# Altium footprint library WE-FLYTI.PcbLib: 25 footprints (part 1 of 2)
Each footprint in its own frame and in the unit in brackets; x right, y up, seen from the top. Pads: shape width x height; smd on the part's side, far side on the other; paste and mask are expansions set on the pad; w line width, h text height; cw(c..) or ccw(c..) is an arc to the next point about the centre after c.
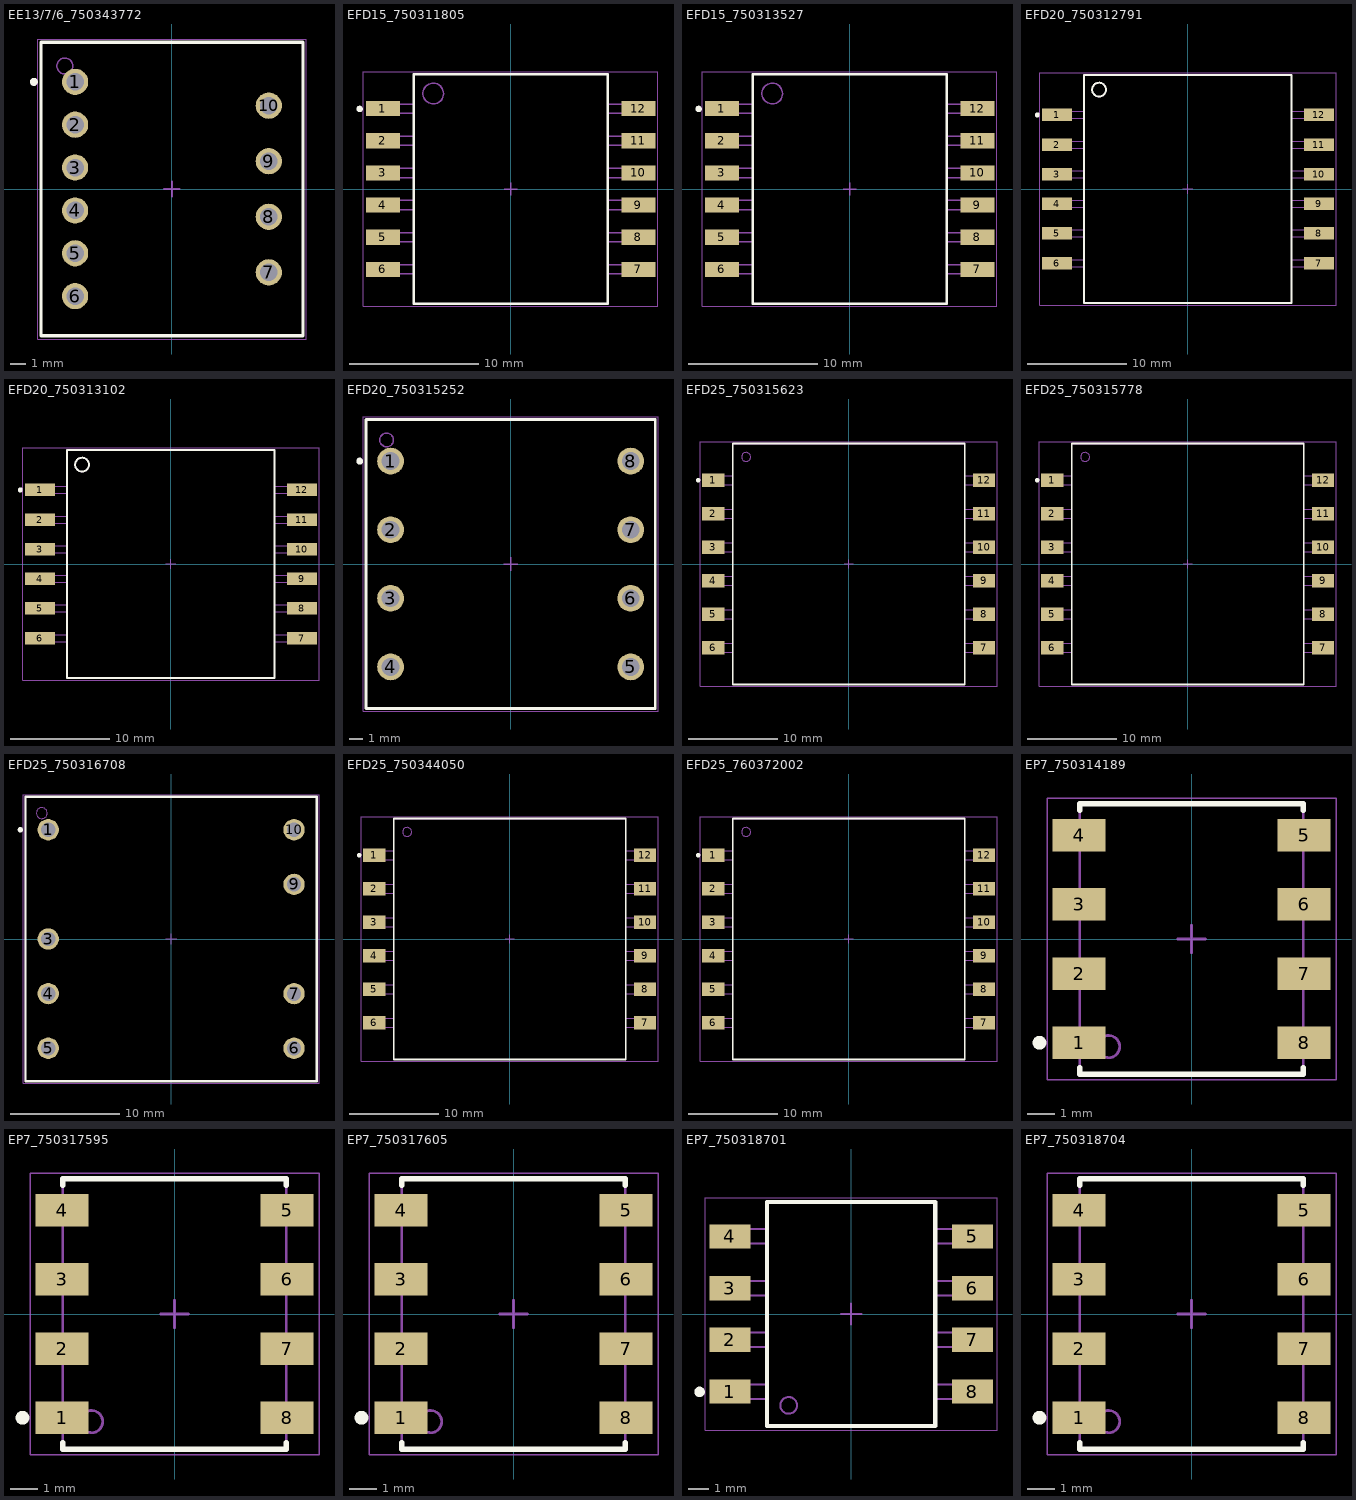
[diagram p0: the footprints below, top view; thin cyan lines are the x and y axes]

## EE13/7/6_750343772 [mm] "Flyback Transformer, EE13/7/6, THT"
height 18.8
pads (10):
  round 1.65 hole 1.1: 1(-6.1,6.75) 2(-6.1,4.05) 3(-6.1,1.35) 4(-6.1,-1.35) 5(-6.1,-4.05) 6(-6.1,-6.75) 7(6.1,-5.25) 8(6.1,-1.75) 9(6.1,1.75) 10(6.1,5.25)
Top Overlay:
  circle w0.25: c-8.7,6.75 r0.125
  lines w0.2: -8.25,-9.25 -8.25,9.25 8.25,9.25 8.25,-9.25 -8.25,-9.25
Top Assembly:
  circle w0.1: c-6.75,7.75 r0.5
  lines w0.1: -8.25,-9.25 8.25,-9.25 8.25,9.25 -8.25,9.25 -8.25,-9.25
Top Designator:
  text ".Designator" at -3.647,-0.357 h1
Top Courtyard:
  lines w0.05: -8.45,-9.45 -8.45,9.45 8.45,9.45 8.45,-9.45 -8.45,-9.45
Top Component Center:
  lines w0.1: -0.5,0 0.5,0 ; 0,-0.5 0,0.5
3D body "070-5278 (rev1).STEP": height 17.78, standoff -3.95, extent -7.74,-8.81 7.74,8.81

## EFD15_750311805 [mm] "Flyback Transformer, EFD15, SMT"
height 8.89
pads (12):
  rect 2.62x1.17 smd: 1(-9.895,6.225) 2(-9.895,3.735) 3(-9.895,1.245) 4(-9.895,-1.245) 5(-9.895,-3.735) 6(-9.895,-6.225) 7(9.895,-6.225) 8(9.895,-3.735) 9(9.895,-1.245) 10(9.895,1.245) 11(9.895,3.735) 12(9.895,6.225)
Top Overlay:
  circle w0.25: c-11.7,6.2 r0.125
  lines w0.2: -7.5,-8.89 -7.5,8.89 7.5,8.89 7.5,-8.89 -7.5,-8.89
Top Assembly:
  circle w0.1: c-6,7.39 r0.8
  lines w0.1: -7.5,-6.58 -10.62,-6.58 -10.62,-5.87 -7.5,-5.87 ; -7.5,-4.09 -10.62,-4.09 -10.62,-3.38 -7.5,-3.38 ; -7.5,-1.6 -10.62,-1.6 -10.62,-0.89 -7.5,-0.89 ; -7.5,0.89 -10.62,0.89 -10.62,1.6 -7.5,1.6 ; -7.5,3.38 -10.62,3.38 -10.62,4.09 -7.5,4.09 ; -7.5,5.87 -10.62,5.87 -10.62,6.58 -7.5,6.58 ; 7.5,-6.58 10.62,-6.58 10.62,-5.87 7.5,-5.87 ; 7.5,-4.09 10.62,-4.09 10.62,-3.38 7.5,-3.38 ; 7.5,-1.6 10.62,-1.6 10.62,-0.89 7.5,-0.89 ; 7.5,0.89 10.62,0.89 10.62,1.6 7.5,1.6 ; 7.5,3.38 10.62,3.38 10.62,4.09 7.5,4.09 ; 7.5,5.87 10.62,5.87 10.62,6.58 7.5,6.58 ; -7.5,-8.89 7.5,-8.89 7.5,8.89 -7.5,8.89 -7.5,-8.89
Top Designator:
  text ".Designator" at -3.647,-0.357 h1
Top Courtyard:
  lines w0.05: -11.405,-9.09 -11.405,9.09 11.405,9.09 11.405,-9.09 -11.405,-9.09
Top Component Center:
  lines w0.1: -0.5,0 0.5,0 ; 0,-0.5 0,0.5
3D body "Download_STP_070-4265_0173 (rev1).STEP": height 8.35, standoff 0.05, extent -10.62,-8.495 10.62,8.495

## EFD15_750313527 [mm] "Flyback Transformer, EFD15, SMT"
height 8.89
pads (12):
  rect 2.62x1.17 smd: 1(-9.895,6.225) 2(-9.895,3.735) 3(-9.895,1.245) 4(-9.895,-1.245) 5(-9.895,-3.735) 6(-9.895,-6.225) 7(9.895,-6.225) 8(9.895,-3.735) 9(9.895,-1.245) 10(9.895,1.245) 11(9.895,3.735) 12(9.895,6.225)
Top Overlay:
  circle w0.25: c-11.7,6.2 r0.125
  lines w0.2: -7.5,-8.89 7.5,-8.89 7.5,8.89 -7.5,8.89 -7.5,-8.89
Top Assembly:
  circle w0.1: c-6,7.39 r0.8
  lines w0.1: -7.5,-6.58 -10.62,-6.58 -10.62,-5.87 -7.5,-5.87 ; -7.5,-4.09 -10.62,-4.09 -10.62,-3.38 -7.5,-3.38 ; -7.5,-1.6 -10.62,-1.6 -10.62,-0.89 -7.5,-0.89 ; -7.5,0.89 -10.62,0.89 -10.62,1.6 -7.5,1.6 ; -7.5,3.38 -10.62,3.38 -10.62,4.09 -7.5,4.09 ; -7.5,5.87 -10.62,5.87 -10.62,6.58 -7.5,6.58 ; 7.5,-6.58 10.62,-6.58 10.62,-5.87 7.5,-5.87 ; 7.5,-4.09 10.62,-4.09 10.62,-3.38 7.5,-3.38 ; 7.5,-1.6 10.62,-1.6 10.62,-0.89 7.5,-0.89 ; 7.5,0.89 10.62,0.89 10.62,1.6 7.5,1.6 ; 7.5,3.38 10.62,3.38 10.62,4.09 7.5,4.09 ; 7.5,5.87 10.62,5.87 10.62,6.58 7.5,6.58 ; -7.5,-8.89 -7.5,8.89 7.5,8.89 7.5,-8.89 -7.5,-8.89
Top Designator:
  text ".Designator" at -3.647,-0.357 h1
Top Courtyard:
  lines w0.05: -11.405,-9.09 11.405,-9.09 11.405,9.09 -11.405,9.09 -11.405,-9.09
Top Component Center:
  lines w0.1: -0.5,0 0.5,0 ; 0,-0.5 0,0.5
3D body "Download_STP_070-4265_0173 (rev1).STEP": height 8.35, standoff 0.05, extent -10.62,-8.495 10.62,8.495

## EFD20_750312791 [mm] "Flyback Transformer, EFD20, SMT"
height 11.43
pads (12):
  rect 3.05x1.27 smd: 1(-13.26,7.5) 2(-13.26,4.5) 3(-13.26,1.5) 4(-13.26,-1.5) 5(-13.26,-4.5) 6(-13.26,-7.5) 7(13.26,-7.5) 8(13.26,-4.5) 9(13.26,-1.5) 10(13.26,1.5) 11(13.26,4.5) 12(13.26,7.5)
Top Overlay:
  circle w0.2: c-9,10.055 r0.7
  circle w0.25: c-15.25,7.5 r0.125
  lines w0.2: -10.5,-11.555 -10.5,11.555 10.5,11.555 10.5,-11.555 -10.5,-11.555
Top Assembly:
  circle w0.1: c-9,10.055 r0.7
  lines w0.1: -10.5,-7.855 -14.325,-7.855 -14.325,-7.145 -10.5,-7.145 ; -10.5,-4.855 -14.325,-4.855 -14.325,-4.145 -10.5,-4.145 ; -10.5,-1.855 -14.325,-1.855 -14.325,-1.145 -10.5,-1.145 ; -10.5,1.145 -14.325,1.145 -14.325,1.855 -10.5,1.855 ; -10.5,4.145 -14.325,4.145 -14.325,4.855 -10.5,4.855 ; -10.5,7.145 -14.325,7.145 -14.325,7.855 -10.5,7.855 ; 10.5,-7.855 14.325,-7.855 14.325,-7.145 10.5,-7.145 ; 10.5,-4.855 14.325,-4.855 14.325,-4.145 10.5,-4.145 ; 10.5,-1.855 14.325,-1.855 14.325,-1.145 10.5,-1.145 ; 10.5,1.145 14.325,1.145 14.325,1.855 10.5,1.855 ; 10.5,4.145 14.325,4.145 14.325,4.855 10.5,4.855 ; 10.5,7.145 14.325,7.145 14.325,7.855 10.5,7.855 ; -10.5,-11.555 -10.5,11.555 10.5,11.555 10.5,-11.555 -10.5,-11.555
Top Designator:
  text ".Designator" at -3.647,-0.357 h1
Top Courtyard:
  lines w0.05: -14.985,-11.755 -14.985,11.755 14.985,11.755 14.985,-11.755 -14.985,-11.755
Top Component Center:
  lines w0.1: -0.5,0 0.5,0 ; 0,-0.5 0,0.5
3D body "Download_STP_070-5899 (rev1) (3).STEP": height 10.67, standoff 0, extent -14.325,-10 14.325,10

## EFD20_750313102 [mm] "Flyback Transformer, EFD20, SMT"
height 11.43
pads (12):
  rect 3.05x1.27 smd: 1(-13.26,7.5) 2(-13.26,4.5) 3(-13.26,1.5) 4(-13.26,-1.5) 5(-13.26,-4.5) 6(-13.26,-7.5) 7(13.26,-7.5) 8(13.26,-4.5) 9(13.26,-1.5) 10(13.26,1.5) 11(13.26,4.5) 12(13.26,7.5)
Top Overlay:
  circle w0.25: c-15.25,7.5 r0.125
  circle w0.2: c-9,10.055 r0.7
  lines w0.2: -10.5,-11.555 10.5,-11.555 10.5,11.555 -10.5,11.555 -10.5,-11.555
Top Assembly:
  circle w0.1: c-9,10.055 r0.7
  lines w0.1: -10.5,-7.855 -14.325,-7.855 -14.325,-7.145 -10.5,-7.145 ; -10.5,-4.855 -14.325,-4.855 -14.325,-4.145 -10.5,-4.145 ; -10.5,-1.855 -14.325,-1.855 -14.325,-1.145 -10.5,-1.145 ; -10.5,1.145 -14.325,1.145 -14.325,1.855 -10.5,1.855 ; -10.5,4.145 -14.325,4.145 -14.325,4.855 -10.5,4.855 ; -10.5,7.145 -14.325,7.145 -14.325,7.855 -10.5,7.855 ; 10.5,-7.855 14.325,-7.855 14.325,-7.145 10.5,-7.145 ; 10.5,-4.855 14.325,-4.855 14.325,-4.145 10.5,-4.145 ; 10.5,-1.855 14.325,-1.855 14.325,-1.145 10.5,-1.145 ; 10.5,1.145 14.325,1.145 14.325,1.855 10.5,1.855 ; 10.5,4.145 14.325,4.145 14.325,4.855 10.5,4.855 ; 10.5,7.145 14.325,7.145 14.325,7.855 10.5,7.855 ; -10.5,-11.555 10.5,-11.555 10.5,11.555 -10.5,11.555 -10.5,-11.555
Top Designator:
  text ".Designator" at -3.647,-0.357 h1
Top Courtyard:
  lines w0.05: -14.985,-11.755 14.985,-11.755 14.985,11.755 -14.985,11.755 -14.985,-11.755
Top Component Center:
  lines w0.1: -0.5,0 0.5,0 ; 0,-0.5 0,0.5
3D body "Download_STP_070-4275-0169 (rev1) (3).STEP": height 10.93, standoff 0, extent -14.28,-10.05 14.28,10.05

## EFD20_750315252 [mm] "Flyback Transformer, EFD20, THT"
height 11.05
pads (8):
  round 1.95 hole 1.3: 1(-8.75,7.5) 2(-8.75,2.5) 3(-8.75,-2.5) 4(-8.75,-7.5) 5(8.75,-7.5) 6(8.75,-2.5) 7(8.75,2.5) 8(8.75,7.5)
Top Overlay:
  circle w0.25: c-11,7.5 r0.125
  lines w0.2: -10.54,-10.54 10.54,-10.54 10.54,10.54 -10.54,10.54 -10.54,-10.54
Top Assembly:
  circle w0.1: c-9.04,9.04 r0.5
  lines w0.1: -10.54,-10.54 10.54,-10.54 10.54,10.54 -10.54,10.54 -10.54,-10.54
Top Designator:
  text ".Designator" at -3.647,-0.357 h1
Top Courtyard:
  lines w0.05: -10.74,-10.74 10.74,-10.74 10.74,10.74 -10.74,10.74 -10.74,-10.74
Top Component Center:
  lines w0.1: -0.5,0 0.5,0 ; 0,-0.5 0,0.5
3D body "Download_STP_070-2609 (rev1) (1).STEP": height 10.55, standoff -3.26, extent -10.1,-10.1 10.1,10.1

## EFD25_750315623 [mm] "Flyback Transformer, EFD25, SMT"
height 13.97
pads (12):
  rect 2.5x1.52 smd: 1(-15.19,9.4) 2(-15.19,5.64) 3(-15.19,1.88) 4(-15.19,-1.88) 5(-15.19,-5.64) 6(-15.19,-9.4) 7(15.19,-9.4) 8(15.19,-5.64) 9(15.19,-1.88) 10(15.19,1.88) 11(15.19,5.64) 12(15.19,9.4)
Top Overlay:
  circle w0.25: c-16.9,9.4 r0.125
  lines w0.2: -13.01,-13.515 -13.01,13.515 13.01,13.515 13.01,-13.515 -13.01,-13.515
Top Assembly:
  circle w0.1: c-11.51,12.015 r0.5
  lines w0.1: -13.01,-9.9 -16.155,-9.9 -16.155,-8.9 -13.01,-8.9 ; -13.01,-6.14 -16.155,-6.14 -16.155,-5.14 -13.01,-5.14 ; -13.01,-2.38 -16.155,-2.38 -16.155,-1.38 -13.01,-1.38 ; -13.01,1.38 -16.155,1.38 -16.155,2.38 -13.01,2.38 ; -13.01,5.14 -16.155,5.14 -16.155,6.14 -13.01,6.14 ; -13.01,8.9 -16.155,8.9 -16.155,9.9 -13.01,9.9 ; 13.01,-9.9 16.155,-9.9 16.155,-8.9 13.01,-8.9 ; 13.01,-6.14 16.155,-6.14 16.155,-5.14 13.01,-5.14 ; 13.01,-2.38 16.155,-2.38 16.155,-1.38 13.01,-1.38 ; 13.01,1.38 16.155,1.38 16.155,2.38 13.01,2.38 ; 13.01,5.14 16.155,5.14 16.155,6.14 13.01,6.14 ; 13.01,8.9 16.155,8.9 16.155,9.9 13.01,9.9 ; -13.01,-13.515 -13.01,13.515 13.01,13.515 13.01,-13.515 -13.01,-13.515
Top Designator:
  text ".Designator" at -3.647,-0.357 h1
Top Courtyard:
  lines w0.05: -16.64,-13.715 -16.64,13.715 16.64,13.715 16.64,-13.715 -16.64,-13.715
Top Component Center:
  lines w0.1: -0.5,0 0.5,0 ; 0,-0.5 0,0.5
3D body "Download_STP_070-4476_0178_clip (rev1).STEP": height 13.28, standoff 0, extent -16.155,-13 16.155,13

## EFD25_750315778 [mm] "Flyback Transformer, EFD25, SMT"
height 13.97
pads (12):
  rect 2.5x1.52 smd: 1(-15.19,9.4) 2(-15.19,5.64) 3(-15.19,1.88) 4(-15.19,-1.88) 5(-15.19,-5.64) 6(-15.19,-9.4) 7(15.19,-9.4) 8(15.19,-5.64) 9(15.19,-1.88) 10(15.19,1.88) 11(15.19,5.64) 12(15.19,9.4)
Top Overlay:
  circle w0.25: c-16.9,9.4 r0.125
  lines w0.2: -13.01,-13.515 13.01,-13.515 13.01,13.515 -13.01,13.515 -13.01,-13.515
Top Assembly:
  circle w0.1: c-11.51,12.015 r0.5
  lines w0.1: -13.01,-9.9 -16.155,-9.9 -16.155,-8.9 -13.01,-8.9 ; -13.01,-6.14 -16.155,-6.14 -16.155,-5.14 -13.01,-5.14 ; -13.01,-2.38 -16.155,-2.38 -16.155,-1.38 -13.01,-1.38 ; -13.01,1.38 -16.155,1.38 -16.155,2.38 -13.01,2.38 ; -13.01,5.14 -16.155,5.14 -16.155,6.14 -13.01,6.14 ; -13.01,8.9 -16.155,8.9 -16.155,9.9 -13.01,9.9 ; 13.01,-9.9 16.155,-9.9 16.155,-8.9 13.01,-8.9 ; 13.01,-6.14 16.155,-6.14 16.155,-5.14 13.01,-5.14 ; 13.01,-2.38 16.155,-2.38 16.155,-1.38 13.01,-1.38 ; 13.01,1.38 16.155,1.38 16.155,2.38 13.01,2.38 ; 13.01,5.14 16.155,5.14 16.155,6.14 13.01,6.14 ; 13.01,8.9 16.155,8.9 16.155,9.9 13.01,9.9 ; -13.01,-13.515 13.01,-13.515 13.01,13.515 -13.01,13.515 -13.01,-13.515
Top Designator:
  text ".Designator" at -3.647,-0.357 h1
Top Courtyard:
  lines w0.05: -16.64,-13.715 16.64,-13.715 16.64,13.715 -16.64,13.715 -16.64,-13.715
Top Component Center:
  lines w0.1: -0.5,0 0.5,0 ; 0,-0.5 0,0.5
3D body "Download_STP_070-4476_0178_clip (rev1).STEP": height 13.28, standoff 0, extent -16.155,-13 16.155,13

## EFD25_750316708 [mm] "Flyback Transformer, EFD25, THT"
height 14.5
pads (8):
  round 1.95 hole 1.32: 1(-11.25,10) 3(-11.25,0) 4(-11.25,-5) 5(-11.25,-10) 6(11.25,-10) 7(11.25,-5) 9(11.25,5) 10(11.25,10)
Top Overlay:
  circle w0.25: c-13.8,10 r0.125
  lines w0.2: -13.335,-13.02 -13.335,13.02 13.335,13.02 13.335,-13.02 -13.335,-13.02
Top Assembly:
  circle w0.1: c-11.835,11.52 r0.5
  lines w0.1: -13.335,-13.02 -13.335,13.02 13.335,13.02 13.335,-13.02 -13.335,-13.02
Top Designator:
  text ".Designator" at -3.647,-0.357 h1
Top Courtyard:
  lines w0.05: -13.535,-13.22 -13.535,13.22 13.535,13.22 13.535,-13.22 -13.535,-13.22
Top Component Center:
  lines w0.1: -0.5,0 0.5,0 ; 0,-0.5 0,0.5
3D body "Download_STP_070-2710_MP2-8 (rev1).STEP": height 12.98, standoff -3.24, extent -12.91,-12.985 12.91,12.985

## EFD25_750344050 [mm] "Flyback Transformer, EFD25, SMT"
height 13.69
pads (12):
  rect 2.5x1.52 smd: 1(-15.19,9.4) 2(-15.19,5.64) 3(-15.19,1.88) 4(-15.19,-1.88) 5(-15.19,-5.64) 6(-15.19,-9.4) 7(15.19,-9.4) 8(15.19,-5.64) 9(15.19,-1.88) 10(15.19,1.88) 11(15.19,5.64) 12(15.19,9.4)
Top Overlay:
  circle w0.25: c-16.9,9.4 r0.125
  lines w0.2: -13.01,-13.515 -13.01,13.515 13.01,13.515 13.01,-13.515 -13.01,-13.515
Top Assembly:
  circle w0.1: c-11.51,12.015 r0.5
  lines w0.1: -13.01,-9.9 -16.155,-9.9 -16.155,-8.9 -13.01,-8.9 ; -13.01,-6.14 -16.155,-6.14 -16.155,-5.14 -13.01,-5.14 ; -13.01,-2.38 -16.155,-2.38 -16.155,-1.38 -13.01,-1.38 ; -13.01,1.38 -16.155,1.38 -16.155,2.38 -13.01,2.38 ; -13.01,5.14 -16.155,5.14 -16.155,6.14 -13.01,6.14 ; -13.01,8.9 -16.155,8.9 -16.155,9.9 -13.01,9.9 ; 13.01,-9.9 16.155,-9.9 16.155,-8.9 13.01,-8.9 ; 13.01,-6.14 16.155,-6.14 16.155,-5.14 13.01,-5.14 ; 13.01,-2.38 16.155,-2.38 16.155,-1.38 13.01,-1.38 ; 13.01,1.38 16.155,1.38 16.155,2.38 13.01,2.38 ; 13.01,5.14 16.155,5.14 16.155,6.14 13.01,6.14 ; 13.01,8.9 16.155,8.9 16.155,9.9 13.01,9.9 ; -13.01,-13.515 -13.01,13.515 13.01,13.515 13.01,-13.515 -13.01,-13.515
Top Designator:
  text ".Designator" at -3.647,-0.357 h1
Top Courtyard:
  lines w0.05: -16.64,-13.715 -16.64,13.715 16.64,13.715 16.64,-13.715 -16.64,-13.715
Top Component Center:
  lines w0.1: -0.5,0 0.5,0 ; 0,-0.5 0,0.5
3D body "070-4476 (rev1) (1).STEP": height 13.28, standoff 0, extent -16.155,-13 16.155,13

## EFD25_760372002 [mm] "Flyback Transformer, EFD25, SMT"
height 13.97
pads (12):
  rect 2.5x1.52 smd: 1(-15.19,9.4) 2(-15.19,5.64) 3(-15.19,1.88) 4(-15.19,-1.88) 5(-15.19,-5.64) 6(-15.19,-9.4) 7(15.19,-9.4) 8(15.19,-5.64) 9(15.19,-1.88) 10(15.19,1.88) 11(15.19,5.64) 12(15.19,9.4)
Top Overlay:
  circle w0.25: c-16.9,9.4 r0.125
  lines w0.2: -13.01,-13.515 -13.01,13.515 13.01,13.515 13.01,-13.515 -13.01,-13.515
Top Assembly:
  circle w0.1: c-11.51,12.015 r0.5
  lines w0.1: -13.01,-9.9 -16.155,-9.9 -16.155,-8.9 -13.01,-8.9 ; -13.01,-6.14 -16.155,-6.14 -16.155,-5.14 -13.01,-5.14 ; -13.01,-2.38 -16.155,-2.38 -16.155,-1.38 -13.01,-1.38 ; -13.01,1.38 -16.155,1.38 -16.155,2.38 -13.01,2.38 ; -13.01,5.14 -16.155,5.14 -16.155,6.14 -13.01,6.14 ; -13.01,8.9 -16.155,8.9 -16.155,9.9 -13.01,9.9 ; 13.01,-9.9 16.155,-9.9 16.155,-8.9 13.01,-8.9 ; 13.01,-6.14 16.155,-6.14 16.155,-5.14 13.01,-5.14 ; 13.01,-2.38 16.155,-2.38 16.155,-1.38 13.01,-1.38 ; 13.01,1.38 16.155,1.38 16.155,2.38 13.01,2.38 ; 13.01,5.14 16.155,5.14 16.155,6.14 13.01,6.14 ; 13.01,8.9 16.155,8.9 16.155,9.9 13.01,9.9 ; -13.01,-13.515 -13.01,13.515 13.01,13.515 13.01,-13.515 -13.01,-13.515
Top Designator:
  text ".Designator" at -3.647,-0.357 h1
Top Courtyard:
  lines w0.05: -16.64,-13.715 -16.64,13.715 16.64,13.715 16.64,-13.715 -16.64,-13.715
Top Component Center:
  lines w0.1: -0.5,0 0.5,0 ; 0,-0.5 0,0.5
3D body "070-4476 (rev1) (1).STEP": height 13.28, standoff 0, extent -16.155,-13 16.155,13

## EP7_750314189 [mm] "Flyback Transformer, EP7, SMT"
height 10.54
pads (8):
  rect 1.91x1.17 smd: 1(-4.065,-3.75) 2(-4.065,-1.25) 3(-4.065,1.25) 4(-4.065,3.75) 5(4.065,3.75) 6(4.065,1.25) 7(4.065,-1.25) 8(4.065,-3.75)
Top Overlay:
  circle w0.25: c-5.5,-3.75 r0.125
  lines w0.2: -4.04,-4.65 -4.04,-4.89 4.04,-4.89 4.04,-4.65 ; -4.04,4.65 -4.04,4.89 4.04,4.89 4.04,4.65
Top Assembly:
  circle w0.1: c-3,-3.89 r0.4
  lines w0.1: -4.04,-4.105 -4.4,-4.105 -4.4,-3.395 -4.04,-3.395 ; -4.04,-1.605 -4.4,-1.605 -4.4,-0.895 -4.04,-0.895 ; -4.04,0.895 -4.4,0.895 -4.4,1.605 -4.04,1.605 ; -4.04,3.395 -4.4,3.395 -4.4,4.105 -4.04,4.105 ; 4.04,-4.105 4.4,-4.105 4.4,-3.395 4.04,-3.395 ; 4.04,-1.605 4.4,-1.605 4.4,-0.895 4.04,-0.895 ; 4.04,0.895 4.4,0.895 4.4,1.605 4.04,1.605 ; 4.04,3.395 4.4,3.395 4.4,4.105 4.04,4.105 ; -4.04,-4.89 -4.04,4.89 4.04,4.89 4.04,-4.89 -4.04,-4.89
Top Designator:
  text ".Designator" at -3.647,-0.357 h1
Top Courtyard:
  lines w0.05: -5.22,-5.09 -5.22,5.09 5.22,5.09 5.22,-5.09 -5.22,-5.09
Top Component Center:
  lines w0.1: -0.5,0 0.5,0 ; 0,-0.5 0,0.5
3D body "070-4436 (rev1) (8).STEP": height 10.09, standoff 0, extent -4.4,-4.89 4.4,4.89

## EP7_750317595 [mm] "Flyback Transformer, EP7, SMT"
height 10.54
pads (8):
  rect 1.91x1.17 smd: 1(-4.065,-3.75) 2(-4.065,-1.25) 3(-4.065,1.25) 4(-4.065,3.75) 5(4.065,3.75) 6(4.065,1.25) 7(4.065,-1.25) 8(4.065,-3.75)
Top Overlay:
  circle w0.25: c-5.5,-3.75 r0.125
  lines w0.2: -4.04,-4.65 -4.04,-4.89 4.04,-4.89 4.04,-4.65 ; -4.04,4.65 -4.04,4.89 4.04,4.89 4.04,4.65
Top Assembly:
  circle w0.1: c-3,-3.89 r0.4
  lines w0.1: -4.04,-4.105 -4.4,-4.105 -4.4,-3.395 -4.04,-3.395 ; -4.04,-1.605 -4.4,-1.605 -4.4,-0.895 -4.04,-0.895 ; -4.04,0.895 -4.4,0.895 -4.4,1.605 -4.04,1.605 ; -4.04,3.395 -4.4,3.395 -4.4,4.105 -4.04,4.105 ; 4.04,-4.105 4.4,-4.105 4.4,-3.395 4.04,-3.395 ; 4.04,-1.605 4.4,-1.605 4.4,-0.895 4.04,-0.895 ; 4.04,0.895 4.4,0.895 4.4,1.605 4.04,1.605 ; 4.04,3.395 4.4,3.395 4.4,4.105 4.04,4.105 ; -4.04,-4.89 -4.04,4.89 4.04,4.89 4.04,-4.89 -4.04,-4.89
Top Designator:
  text ".Designator" at -3.647,-0.357 h1
Top Courtyard:
  lines w0.05: -5.22,-5.09 -5.22,5.09 5.22,5.09 5.22,-5.09 -5.22,-5.09
Top Component Center:
  lines w0.1: -0.5,0 0.5,0 ; 0,-0.5 0,0.5
3D body "070-4436 (rev1) (8).STEP": height 10.09, standoff 0, extent -4.4,-4.89 4.4,4.89

## EP7_750317605 [mm] "Flyback Transformer, EP7, SMT"
height 10.54
pads (8):
  rect 1.91x1.17 smd: 1(-4.065,-3.75) 2(-4.065,-1.25) 3(-4.065,1.25) 4(-4.065,3.75) 5(4.065,3.75) 6(4.065,1.25) 7(4.065,-1.25) 8(4.065,-3.75)
Top Overlay:
  circle w0.25: c-5.5,-3.75 r0.125
  lines w0.2: -4.04,-4.65 -4.04,-4.89 4.04,-4.89 4.04,-4.65 ; -4.04,4.65 -4.04,4.89 4.04,4.89 4.04,4.65
Top Assembly:
  circle w0.1: c-3,-3.89 r0.4
  lines w0.1: -4.04,-4.105 -4.4,-4.105 -4.4,-3.395 -4.04,-3.395 ; -4.04,-1.605 -4.4,-1.605 -4.4,-0.895 -4.04,-0.895 ; -4.04,0.895 -4.4,0.895 -4.4,1.605 -4.04,1.605 ; -4.04,3.395 -4.4,3.395 -4.4,4.105 -4.04,4.105 ; 4.04,-4.105 4.4,-4.105 4.4,-3.395 4.04,-3.395 ; 4.04,-1.605 4.4,-1.605 4.4,-0.895 4.04,-0.895 ; 4.04,0.895 4.4,0.895 4.4,1.605 4.04,1.605 ; 4.04,3.395 4.4,3.395 4.4,4.105 4.04,4.105 ; -4.04,-4.89 4.04,-4.89 4.04,4.89 -4.04,4.89 -4.04,-4.89
Top Designator:
  text ".Designator" at -3.647,-0.357 h1
Top Courtyard:
  lines w0.05: -5.22,-5.09 5.22,-5.09 5.22,5.09 -5.22,5.09 -5.22,-5.09
Top Component Center:
  lines w0.1: -0.5,0 0.5,0 ; 0,-0.5 0,0.5
3D body "070-4436 (rev1) (8).STEP": height 10.09, standoff 0, extent -4.4,-4.89 4.4,4.89

## EP7_750318701 [mm] "Flyback Transformer, EP7, SMT"
height 9.14
pads (8):
  rect 1.96x1.17 smd: 1(-5.84,-3.735) 2(-5.84,-1.245) 3(-5.84,1.245) 4(-5.84,3.735) 5(5.84,3.735) 6(5.84,1.245) 7(5.84,-1.245) 8(5.84,-3.735)
Top Overlay:
  circle w0.25: c-7.3,-3.75 r0.125
  lines w0.2: -4.05,-5.4 -4.05,5.4 4.05,5.4 4.05,-5.4 -4.05,-5.4
Top Assembly:
  circle w0.1: c-3.01,-4.4 r0.4
  lines w0.1: -4.05,-4.085 -6.35,-4.085 -6.35,-3.385 -4.05,-3.385 ; -4.05,-1.595 -6.35,-1.595 -6.35,-0.895 -4.05,-0.895 ; -4.05,0.895 -6.35,0.895 -6.35,1.595 -4.05,1.595 ; -4.05,3.385 -6.35,3.385 -6.35,4.085 -4.05,4.085 ; 4.05,-4.085 6.35,-4.085 6.35,-3.385 4.05,-3.385 ; 4.05,-1.595 6.35,-1.595 6.35,-0.895 4.05,-0.895 ; 4.05,0.895 6.35,0.895 6.35,1.595 4.05,1.595 ; 4.05,3.385 6.35,3.385 6.35,4.085 4.05,4.085 ; -4.05,-5.4 -4.05,5.4 4.05,5.4 4.05,-5.4 -4.05,-5.4
Top Designator:
  text ".Designator" at -3.647,-0.357 h1
Top Courtyard:
  lines w0.05: -7.02,-5.6 -7.02,5.6 7.02,5.6 7.02,-5.6 -7.02,-5.6
Top Component Center:
  lines w0.1: -0.5,0 0.5,0 ; 0,-0.5 0,0.5
3D body "Download_STP_070-4390 (rev1).STEP": height 8.6, standoff 0, extent -6.35,-5.23 6.35,5.23

## EP7_750318704 [mm] "Flyback Transformer, EP7, SMT"
height 10.54
pads (8):
  rect 1.91x1.17 smd: 1(-4.065,-3.75) 2(-4.065,-1.25) 3(-4.065,1.25) 4(-4.065,3.75) 5(4.065,3.75) 6(4.065,1.25) 7(4.065,-1.25) 8(4.065,-3.75)
Top Overlay:
  circle w0.25: c-5.5,-3.75 r0.125
  lines w0.2: -4.04,-4.65 -4.04,-4.89 4.04,-4.89 4.04,-4.65 ; -4.04,4.65 -4.04,4.89 4.04,4.89 4.04,4.65
Top Assembly:
  circle w0.1: c-3,-3.89 r0.4
  lines w0.1: -4.04,-4.105 -4.4,-4.105 -4.4,-3.395 -4.04,-3.395 ; -4.04,-1.605 -4.4,-1.605 -4.4,-0.895 -4.04,-0.895 ; -4.04,0.895 -4.4,0.895 -4.4,1.605 -4.04,1.605 ; -4.04,3.395 -4.4,3.395 -4.4,4.105 -4.04,4.105 ; 4.04,-4.105 4.4,-4.105 4.4,-3.395 4.04,-3.395 ; 4.04,-1.605 4.4,-1.605 4.4,-0.895 4.04,-0.895 ; 4.04,0.895 4.4,0.895 4.4,1.605 4.04,1.605 ; 4.04,3.395 4.4,3.395 4.4,4.105 4.04,4.105 ; -4.04,-4.89 -4.04,4.89 4.04,4.89 4.04,-4.89 -4.04,-4.89
Top Designator:
  text ".Designator" at -3.647,-0.357 h1
Top Courtyard:
  lines w0.05: -5.22,-5.09 -5.22,5.09 5.22,5.09 5.22,-5.09 -5.22,-5.09
Top Component Center:
  lines w0.1: -0.5,0 0.5,0 ; 0,-0.5 0,0.5
3D body "070-4436 (rev1) (8).STEP": height 10.09, standoff 0, extent -4.4,-4.89 4.4,4.89